# Altium footprint library rcl@1.PCBLIB: 487 footprints (part 26 of 31)
Each footprint in its own frame and in the unit in brackets; x right, y up, seen from the top. Pads: shape width x height; smd on the part's side, far side on the other; paste and mask are expansions set on the pad; w line width, h text height; cw(c..) or ccw(c..) is an arc to the next point about the centre after c.
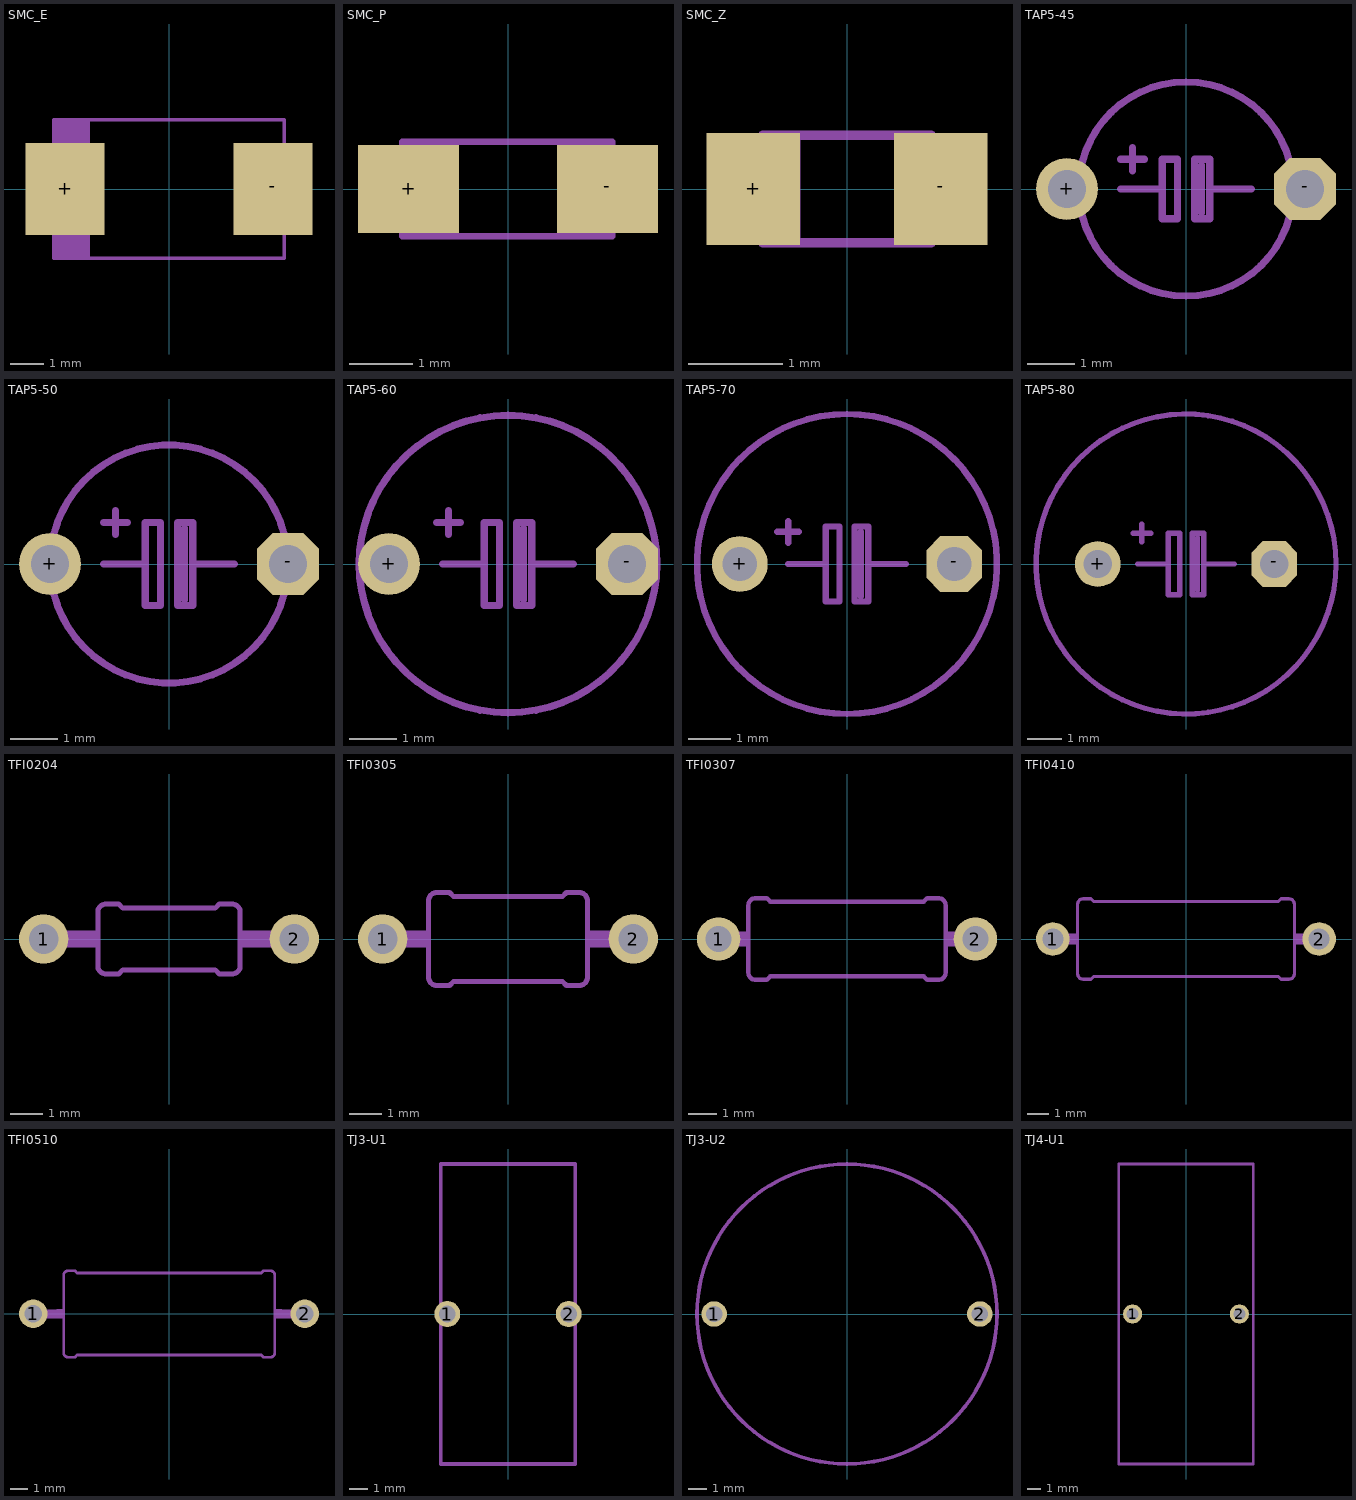
[diagram p25: the footprints below, top view; thin cyan lines are the x and y axes]

## SMC_E [mil]
pads (2):
  rect 94.49x110.24 smd: +(-124.02,0) -(124.02,0)
tDocu:
  region: -143.7,-47.24 -143.7,47.24 -135.83,47.24 -135.83,-47.24
  region: 143.7,47.24 143.7,-47.24 135.83,-47.24 135.83,47.24
  region: -137.8,-82.68 -137.8,82.68 -94.49,82.68 -94.49,-82.68
  lines w4: -137.8,-82.68 137.8,-82.68 137.8,82.68 -137.8,82.68 -137.8,-82.68

## SMC_P [mil]
pads (2):
  rect 62.99x55.12 smd: +(-62.01,0) -(62.01,0)
tDocu:
  region: -70.87,-17.72 -70.87,17.72 -66.93,17.72 -66.93,-17.72
  region: 70.87,17.72 70.87,-17.72 66.93,-17.72 66.93,17.72
  region: -64.96,-29.53 -64.96,28.54 -42.32,28.54 -42.32,-29.53
  lines w4: -65.94,-29.53 64.96,-29.53 64.96,29.53 -65.94,29.53 -65.94,-29.53

## SMC_Z [mm]
pads (2):
  rect 1x1.2 smd: +(-1,0) -(1,0)
tDocu:
  region: -1,-0.45 -1,0.45 -0.9,0.45 -0.9,-0.45
  region: 1,0.45 1,-0.45 0.9,-0.45 0.9,0.45
  region: -0.9,-0.6 -0.9,0.6 -0.5,0.6 -0.5,-0.6
  lines w0.102: -0.9,-0.575 0.9,-0.575 0.9,0.575 -0.9,0.575 -0.9,-0.575

## TAP5-45 [mil]
pads (2):
  round 52 hole 32: +(-100,0)
  oct 52x52 / inner round 48.04 / far side oct 52x52 hole 32: -(100,0)
tDocu:
  lines w6: -75.37,-49.18 cw(c0,0) -75.37,49.18 ; 75.37,-49.18 ccw(c0,0) 75.37,49.18
tPlace:
  lines w6: -75.37,-49.18 ccw(c0,0) 75.37,-49.18 ; -75.37,49.18 cw(c0,0) 75.37,49.18 ; -55,0 -20,0 ; -55,25 -35,25 ; -45,15 -45,35 ; 13,-20 13,20 ; 55,0 20,0 ; -20,0 -20,-25 -7,-25 -7,25 -20,25 -20,0 ; 20,0 20,-25 7,-25 7,25 20,25 20,0
  text "TT" at -35,-75 h60.45

## TAP5-50 [mil]
pads (2):
  round 52 hole 32: +(-100,0)
  oct 52x52 / inner round 48.04 / far side oct 52x52 hole 32: -(100,0)
tDocu:
  lines w6: -84.87,-52.88 cw(c0,0) -84.87,52.88 ; 84.87,-52.88 ccw(c0,0) 84.87,52.88
tPlace:
  lines w6: -84.87,-52.88 ccw(c0,0) 84.87,-52.88 ; -84.87,52.88 cw(c0,0) 84.87,52.88 ; -55,0 -20,0 ; -55,35 -35,35 ; -45,25 -45,45 ; 13,-30 13,30 ; 55,0 20,0 ; -20,0 -20,-35 -7,-35 -7,35 -20,35 -20,0 ; 20,0 20,-35 7,-35 7,35 20,35 20,0
  text "TT" at -35,-85 h60.45

## TAP5-60 [mil]
pads (2):
  round 52 hole 32: +(-100,0)
  oct 52x52 / inner round 48.04 / far side oct 52x52 hole 32: -(100,0)
tDocu:
  lines w6: -113,-53.44 cw(c0,0) -113,53.44 ; 113,-53.44 ccw(c0,0) 113,53.44
tPlace:
  lines w6: -113,-53.44 ccw(c0,0) 113,-53.44 ; -113,53.44 cw(c0,0) 113,53.44 ; -60,35 -40,35 ; -55,0 -20,0 ; -50,25 -50,45 ; 13,-30 13,30 ; 55,0 20,0 ; -20,0 -20,-35 -7,-35 -7,35 -20,35 -20,0 ; 20,0 20,-35 7,-35 7,35 20,35 20,0
  text "TT" at 0,-100 h60.45

## TAP5-70 [mil]
pads (2):
  round 52 hole 32: +(-100,0)
  oct 52x52 / inner round 48.04 / far side oct 52x52 hole 32: -(100,0)
tDocu:
  lines w6: -132.87,-44.09 cw(c0,0) -132.87,44.09 ; 132.87,-44.09 ccw(c0,0) 132.87,44.09
tPlace:
  lines w6: -132.87,-44.09 ccw(c0,0) 132.87,-44.09 ; -132.87,44.09 cw(c0,0) 132.87,44.09 ; -65,30 -45,30 ; -55,0 -20,0 ; -55,20 -55,40 ; 13,-30 13,30 ; 55,0 20,0 ; -20,0 -20,-35 -7,-35 -7,35 -20,35 -20,0 ; 20,0 20,-35 7,-35 7,35 20,35 20,0
  text "TT" at 25,-95 h60.45

## TAP5-80 [mil]
pads (2):
  round 52 hole 32: +(-100,0)
  oct 52x52 / inner round 48.04 / far side oct 52x52 hole 32: -(100,0)
tPlace:
  circle w6: c0,0 r170
  lines w6: -60,35 -40,35 ; -55,0 -20,0 ; -50,25 -50,45 ; 13,-30 13,30 ; 55,0 20,0 ; -20,0 -20,-35 -7,-35 -7,35 -20,35 -20,0 ; 20,0 20,-35 7,-35 7,35 20,35 20,0
  text "TT" at 80,40 h60.45

## TFI0204 [mil]
pads (2):
  round 59.06 hole 35.43: 1(-150,0) 2(150,0)
tDocu:
  lines w20: -150,0 -100,0 ; 100,0 150,0
tPlace:
  region: 85.24,-10 85.24,10 100.24,10 100.24,-10
  region: -100.24,-10 -100.24,10 -85.24,10 -85.24,-10
  lines w6: -85.24,-31.97 ccw(c-75.24,-31.97) -75.24,-41.97 -60.24,-41.97 -55.24,-36.97 55.24,-36.97 60.24,-41.97 75.24,-41.97 ccw(c75.24,-31.97) 85.24,-31.97 85.24,31.97 ccw(c75.24,31.97) 75.24,41.97 60.24,41.97 55.24,36.97 -55.24,36.97 -60.24,41.97 -75.24,41.97 ccw(c-75.24,31.97) -85.24,31.97 -85.24,-31.97

## TFI0305 [mil]
pads (2):
  round 59.06 hole 35.43: 1(-150,0) 2(150,0)
tDocu:
  lines w20: -150,0 -109.84,0 ; 109.84,0 150,0
tPlace:
  region: 95.08,-10 95.08,10 110.08,10 110.08,-10
  region: -110.08,-10 -110.08,10 -95.08,10 -95.08,-10
  lines w6: -95.08,-45.75 ccw(c-85.08,-45.75) -85.08,-55.75 -70.08,-55.75 -65.08,-50.75 65.08,-50.75 70.08,-55.75 85.08,-55.75 ccw(c85.08,-45.75) 95.08,-45.75 95.08,45.75 ccw(c85.08,45.75) 85.08,55.75 70.08,55.75 65.08,50.75 -65.08,50.75 -70.08,55.75 -85.08,55.75 ccw(c-85.08,45.75) -95.08,45.75 -95.08,-45.75

## TFI0307 [mil]
pads (2):
  round 59.06 hole 35.43: 1(-175,0) 2(175,0)
tDocu:
  lines w20: -175,0 -149.21,0 ; 149.21,0 175,0
tPlace:
  region: 134.45,-10 134.45,10 149.45,10 149.45,-10
  region: -149.45,-10 -149.45,10 -134.45,10 -134.45,-10
  lines w6: -134.45,-45.75 ccw(c-124.45,-45.75) -124.45,-55.75 -109.45,-55.75 -104.45,-50.75 104.45,-50.75 109.45,-55.75 124.45,-55.75 ccw(c124.45,-45.75) 134.45,-45.75 134.45,45.75 ccw(c124.45,45.75) 124.45,55.75 109.45,55.75 104.45,50.75 -104.45,50.75 -109.45,55.75 -124.45,55.75 ccw(c-124.45,45.75) -134.45,45.75 -134.45,-45.75

## TFI0410 [mm]
pads (2):
  round 1.6 hole 1: 1(-6.35,0) 2(6.35,0)
tDocu:
  lines w0.508: -6.35,0 -5.54,0 ; 5.54,0 6.35,0
tPlace:
  region: 5.165,-0.254 5.165,0.254 5.546,0.254 5.546,-0.254
  region: -5.546,-0.254 -5.546,0.254 -5.165,0.254 -5.165,-0.254
  lines w0.152: -5.165,-1.662 ccw(c-4.911,-1.662) -4.911,-1.916 -4.53,-1.916 -4.403,-1.789 4.403,-1.789 4.53,-1.916 4.911,-1.916 ccw(c4.911,-1.662) 5.165,-1.662 5.165,1.662 ccw(c4.911,1.662) 4.911,1.916 4.53,1.916 4.403,1.789 -4.403,1.789 -4.53,1.916 -4.911,1.916 ccw(c-4.911,1.662) -5.165,1.662 -5.165,-1.662

## TFI0510 [mm]
pads (2):
  round 1.6 hole 1: 1(-7.62,0) 2(7.62,0)
tDocu:
  lines w0.508: -7.62,0 -6.29,0 ; 6.315,0 7.62,0
tPlace:
  region: 5.94,-0.254 5.94,0.254 6.321,0.254 6.321,-0.254
  region: -6.296,-0.254 -6.296,0.254 -5.915,0.254 -5.915,-0.254
  lines w0.152: -5.915,-2.187 ccw(c-5.661,-2.187) -5.661,-2.441 -5.28,-2.441 -5.153,-2.314 5.178,-2.314 5.305,-2.441 5.686,-2.441 ccw(c5.686,-2.187) 5.94,-2.187 5.94,2.162 ccw(c5.686,2.162) 5.686,2.416 5.305,2.416 5.178,2.289 -5.153,2.289 -5.28,2.416 -5.661,2.416 ccw(c-5.661,2.162) -5.915,2.162 -5.915,-2.187

## TJ3-U1 [mil]
pads (2):
  round 55.43 hole 35.43: 1(-129.92,0) 2(129.92,0)
tDocu:
  lines w8: -143.7,-43.31 -143.7,43.31 ; 143.7,-43.31 143.7,43.31
tPlace:
  lines w8: -143.7,-43.31 -143.7,-320.87 143.7,-320.87 143.7,-43.31 ; -143.7,43.31 -143.7,320.87 143.7,320.87 143.7,43.31

## TJ3-U2 [mm]
pads (2):
  round 1.408 hole 0.9: 1(-7.35,0) 2(7.35,0)
tValues:
  circle w0.203: c0,0 r8.3

## TJ4-U1 [mil]
pads (2):
  round 55.43 hole 35.43: 1(-154.92,0) 2(154.92,0)
tPlace:
  lines w8: -194.88,-435.04 194.88,-435.04 194.88,435.04 -194.88,435.04 -194.88,-435.04